# EAGLE library part RT8293B (library bt_regulator)
3A, 23V, 1.2MHz Synchronous Step-Down Converter The RT8293B is a high efficiency, monolithic synchronous step-down DC/DC converter (regulator) that can deliver up to 3A output current from a 4.5V to 23V input supply. The RT8293B's current mode architecture and external compensation allow the transient response to be optimized over a wide range of loads and output capacitors. Cycle-by-cycle current limit provides protection against shorted outputs and soft-start eliminates input current surge during start-up. The RT8293B provides output under voltage protection and thermal shutdown protection. The low current (<3μA) shutdown mode provides output disconnect, enabling easy power management in battery- powered systems. Datasheet.pdf <http://www.richtek.com/assets/product_file/RT8293B/DS8293B-03.pdf>
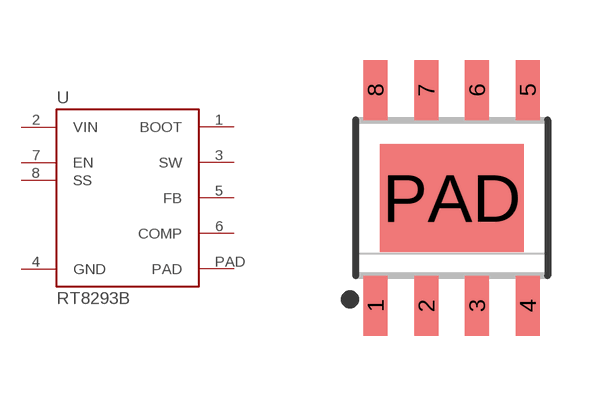
[diagram p4: symbol with the pads of SO-8EP; footprint SO-8EP]

Designator prefix U

## RT8293B  [SO-8EP]
1  BOOT
2  VIN
3  SW
4  GND
5  FB
6  COMP
7  EN
8  SS
PAD  PAD

## Footprint SO-8EP (pad centres in mm)
smd 0.6 x 1.5: 1 -1.905,-2.7; 2 -0.635,-2.7; 3 0.635,-2.7; 4 1.905,-2.7; 5 1.905,2.7; 6 0.635,2.7; 7 -0.635,2.7; 8 -1.905,2.7
smd 3.6 x 2.7: PAD 0,0